# EAGLE library part JP3QE (library jumper1)
JUMPER
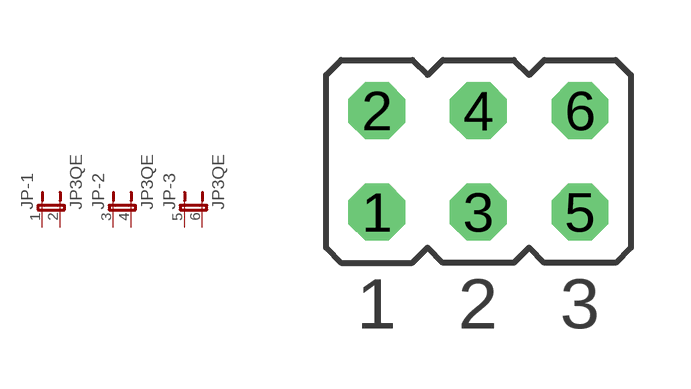
[diagram p3: symbol with the pads of JP3Q; footprint JP3Q]

Designator prefix JP; gates -1=JP2E -2=JP2E -3=JP2E

## JP3QE  [JP3Q]
1  -1:1  pas
2  -1:2  pas
3  -2:1  pas
4  -2:2  pas
5  -3:1  pas
6  -3:2  pas

## Footprint JP3Q (pad centres in mm)
JUMPER
drill 0.914 octagon: 1 -2.54,-1.27; 2 -2.54,1.27; 3 0,-1.27; 4 0,1.27; 5 2.54,-1.27; 6 2.54,1.27